# EAGLE library part ADC-ADC120 (library ds_ic_peripherals)
8-Channel, 50ksps to 1Msps, 12-Bit A/D Converter
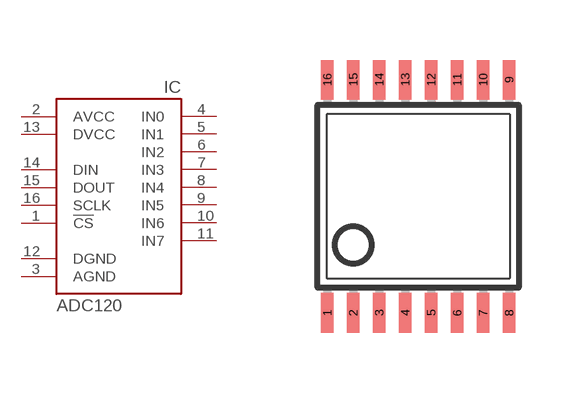
[diagram p6: symbol with the pads of TSSOP16; footprint TSSOP16]

Designator prefix IC

## ADC-ADC120IPT  [TSSOP16]
1  !CS
2  AVCC
3  AGND
4  IN0
5  IN1
6  IN2
7  IN3
8  IN4
9  IN5
10  IN6
11  IN7
12  DGND
13  DVCC
14  DIN
15  DOUT
16  SCLK

## Footprint TSSOP16 (pad centres in mm)
Thin Shrink Small Outline Plastic 16 MAX3223-MAX3243.pdf
smd 0.305 x 0.991: 1 -2.275,-2.918; 2 -1.625,-2.918; 3 -0.975,-2.918; 4 -0.325,-2.918; 5 0.325,-2.918; 6 0.975,-2.918; 7 1.625,-2.918; 8 2.275,-2.918; 9 2.275,2.918; 10 1.625,2.918; 11 0.975,2.918; 12 0.325,2.918; 13 -0.325,2.918; 14 -0.975,2.918; 15 -1.625,2.918; 16 -2.275,2.918